# EAGLE library part RJ-45 (library SW_Connectors)
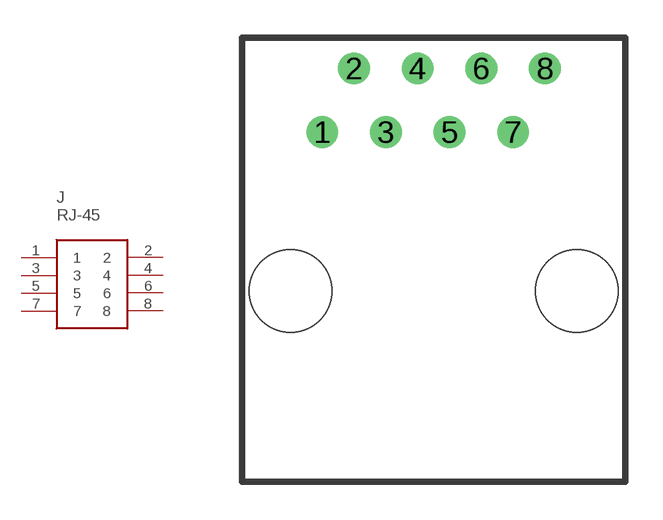
[diagram p4: symbol with the pads of 54602-908LF_1; footprint 54602-908LF_1]

Designator prefix J

## RJ-45 (CATEGORY: Connector; DESCRIPTION: FCI,54602-908LF,Connector,Modular Amphenol FCI Cat3 RJ45 Connector Socket, Right Angle, Through Hole 54602; MFGS: Amphenol ICC; MPNS: 54602-908LF; PACKAGE: RJ-45)  [54602-908LF_1]
1  1
2  2
3  3
4  4
5  5
6  6
7  7
8  8

## Footprint 54602-908LF_1 (pad centres in mm)
54602-908LF
drill 0.76 pad 1.26: 1 -4.445,13.97; 2 -3.175,16.51; 3 -1.905,13.97; 4 -0.635,16.51; 5 0.635,13.97; 6 1.905,16.51; 7 3.175,13.97; 8 4.445,16.51
hole 3.3 at -5.715,7.62
hole 3.3 at 5.715,7.62